# Altium schematic symbol library Fairchild.SchLib: 1 symbol
Pins are listed as number, name and electrical type; pins without a type are passive.

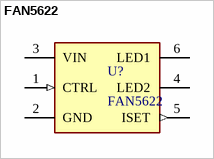
[diagram p0: symbol FAN5622]

## FAN5622
designator U?
Linear LED Drivers with Single-Wire Digital Interface; Manufacturer: Failchild; Part Number: FAN5622; Value: FAN5622; Device Package: SOT23-6; Mounting Type: SMT; Operating Temperature: *; Package / Case: SOT23-6; Size / Dimension: *; Thickness (Max): 1.10; Distributor link 1: https://www.digikey.com/en/products/detail/on-semiconductor/FAN5622SX/2509485; Distributor link 2: *; Distributor link 3: *; Link: https://www.onsemi.com/products/power-management/led-drivers/linear-led-drivers/fan5622sx
pins: 1 CTRL (in), 2 GND (power), 3 VIN (power), 4 LED2, 5 ISET (out), 6 LED1